# Altium schematic symbol library Mine.SchLib: 66 symbols
Pins are listed as number, name and electrical type; pins without a type are passive.

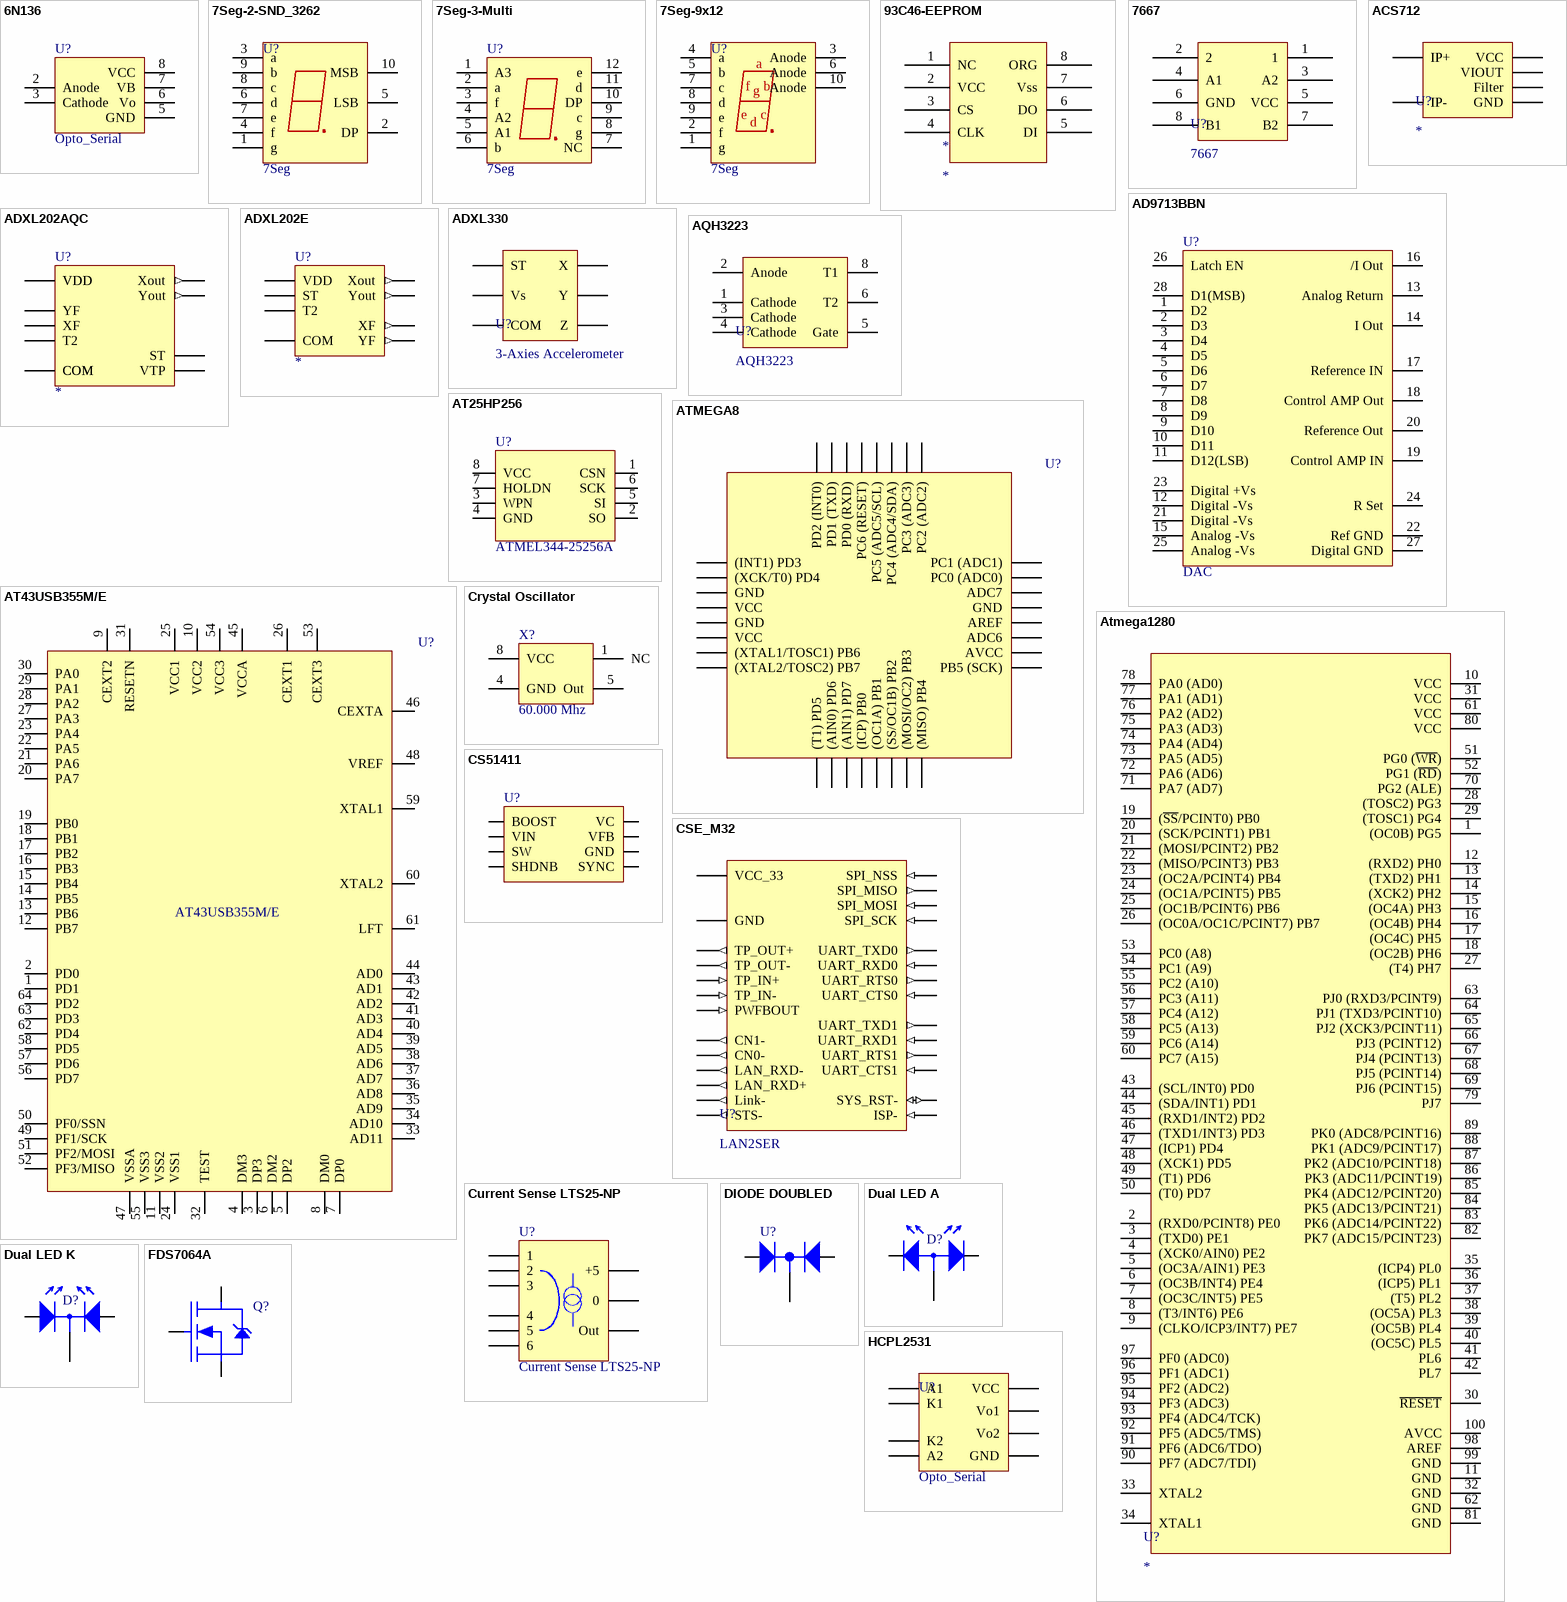
[diagram p0: symbols 6N136 to HCPL2531]

## 6N136
designator U?, comment Opto_Serial
footprint DIP-8 (Footprint not found)
pins: 2 Anode, 3 Cathode, 5 GND, 6 Vo, 7 VB, 8 VCC

## 7Seg-2-SND_3262
designator U?, comment 7Seg
footprint 7Seg-2-SND_3262 (Footprint not found)
pins: 1 g, 2 DP, 3 a, 4 f, 5 LSB, 6 d, 7 e, 8 c, 9 b, 10 MSB

## 7Seg-3-Multi
designator U?, comment 7Seg
footprint 7Seg-3-Multi
pins: 1 A3, 2 a, 3 f, 4 A2, 5 A1, 6 b, 7 NC, 8 g, 9 c, 10 DP, 11 d, 12 e

## 7Seg-9x12
designator U?, comment 7Seg
footprint 7Seg-9x12 (Footprint not found)
pins: 1 g, 2 f, 3 Anode, 4 a, 5 b, 6 Anode, 7 c, 8 d, 9 e, 10 Anode

## 93C46-EEPROM
designator *
footprint 93C46-EEPROM
pins: 1 NC, 2 VCC, 3 CS, 4 CLK, 5 DI, 6 DO, 7 Vss, 8 ORG

## 7667
designator U?
pins: 1, 2, 3 A2, 4 A1, 5 VCC, 6 GND, 7 B2, 8 B1

## ACS712
designator U?
footprint SO8_N (Footprint not found)
pins: 1 IP+ (power), 2 IP+ (power), 3 IP- (power), 4 IP- (power), 5 GND (power), 6 Filter, 7 VIOUT, 8 VCC

## AD9713BBN
designator U?, comment DAC
footprint DIP28W (DIP; 28 Leads; Row Spacing 15.24 mm; Pitch 2.54 mm)
pins: 1 D2, 2 D3, 3 D4, 4 D5, 5 D6, 6 D7, 7 D8, 8 D9, 9 D10, 10 D11, 11 D12(LSB), 12 Digital -Vs, 13 Analog Return, 14 I Out, 15 Analog -Vs, 16 /I Out, 17 Reference IN, 18 Control AMP Out, 19 Control AMP IN, 20 Reference Out, 21 Digital -Vs, 22 Ref GND, 23 Digital +Vs, 24 R Set, 25 Analog -Vs, 26 Latch EN, 27 Digital GND, 28 D1(MSB)

## ADXL202AQC
designator U?
Dual-Axis Accelerometer with Duty Cycle Output
footprint SOP14
pins: 2 VTP "Test Point, Do Not Connect", 3 ST "Self Test", 4 COM (power) "Common", 5 T2 "Connect RSET to Set T2 Period", 7 COM "Common", 9 Yout (out) "Y Axis Duty Cycle Output", 10 Xout (out) "X Axis Duty Cycle Output", 11 YF "Connect Capacitor for Y Filter", 12 XF "Connect Capacitor for X Filter", 13 VDD "+3 V to +5.25 V", 14 VDD "+3 V to +5.25 V"

## ADXL202E
designator U?
Dual-Axis Accelerometer with Duty Cycle Output
footprint LCC8
pins: 1 ST "Self-Test", 2 T2 "Connect RSET to Set T2 Period", 3 COM (power) "Common", 4 Yout (out) "Y-Channel Duty Cycle Output", 5 Xout (out) "X-Channel Duty Cycle Output", 6 YF (out) "Y-Channel Filter Pin", 7 XF (out) "X-Channel Filter Pin", 8 VDD (power) "3 V to 5.25 V"

## ADXL330
designator U?, comment 3-Axies Accelerometer
footprint CP-16-5
pins: 2 ST, 3 COM, 5 COM, 6 COM, 7 COM, 8 Z, 10 Y, 12 X, 14 Vs, 15 Vs

## AQH3223
designator U?
footprint DIP-8 (Footprint not found)
pins: 1 Cathode, 2 Anode, 3 Cathode, 4 Cathode, 5 Gate, 6 T2, 8 T1

## AT25HP256
designator U?, comment ATMEL344-25256A
pins: 1 CSN, 2 SO, 3 WPN, 4 GND, 5 SI, 6 SCK, 7 HOLDN, 8 VCC

## AT43USB355M/E
designator U?
footprint AT43USB355
pins: 1 PD1, 2 PD0, 3 DP3, 4 DM3, 5 DP2, 6 DM2, 7 DP0, 8 DM0, 9 CEXT2, 10 VCC2, 11 VSS2, 12 PB7, 13 PB6, 14 PB5, 15 PB4, 16 PB3, 17 PB2, 18 PB1, 19 PB0, 20 PA7, 21 PA6, 22 PA5, 23 PA4, 24 VSS1, 25 VCC1, 26 CEXT1, 27 PA3, 28 PA2, 29 PA1, 30 PA0, 31 RESETN, 32 TEST, 33 AD11, 34 AD10, 35 AD9, 36 AD8, 37 AD7, 38 AD6, 39 AD5, 40 AD4, 41 AD3, 42 AD2, 43 AD1, 44 AD0, 45 VCCA, 46 CEXTA, 47 VSSA, 48 VREF, 49 PF1/SCK, 50 PF0/SSN, 51 PF2/MOSI, 52 PF3/MISO, 53 CEXT3, 54 VCC3, 55 VSS3, 56 PD7, 57 PD6, 58 PD5, 59 XTAL1, 60 XTAL2, 61 LFT, 62 PD4, 63 PD3, 64 PD2

## ATMEGA8
designator U?
footprint Atmega8 (Model Description)
pins: 1 (INT1) PD3, 2 (XCK/T0) PD4, 3 GND, 4 VCC, 5 GND, 6 VCC, 7 (XTAL1/TOSC1) PB6, 8 (XTAL2/TOSC2) PB7, 9 (T1) PD5, 10 (AIN0) PD6, 11 (AIN1) PD7, 12 (ICP) PB0, 13 (OC1A) PB1, 14 (SS/OC1B) PB2, 15 (MOSI/OC2) PB3, 16 (MISO) PB4, 17 PB5 (SCK), 18 AVCC, 19 ADC6, 20 AREF, 21 GND, 22 ADC7, 23 PC0 (ADC0), 24 PC1 (ADC1), 25 PC2 (ADC2), 26 PC3 (ADC3), 27 PC4 (ADC4/SDA), 28 PC5 (ADC5/SCL), 29 PC6 (RESET), 30 PD0 (RXD), 31 PD1 (TXD), 32 PD2 (INT0)

## Atmega1280
designator U?
footprint TQFP100_L (Thin QFP, 100-Leads, Body 14x14mm, Pitch 0.5mm, IPC High Density)
pins: 1 (OC0B) PG5, 2 (RXD0/PCINT8) PE0, 3 (TXD0) PE1, 4 (XCK0/AIN0) PE2, 5 (OC3A/AIN1) PE3, 6 (OC3B/INT4) PE4, 7 (OC3C/INT5) PE5, 8 (T3/INT6) PE6, 9 (CLKO/ICP3/INT7) PE7, 10 VCC, 11 GND, 12 (RXD2) PH0, 13 (TXD2) PH1, 14 (XCK2) PH2, 15 (OC4A) PH3, 16 (OC4B) PH4, 17 (OC4C) PH5, 18 (OC2B) PH6, 19 (~{SS}/PCINT0) PB0, 20 (SCK/PCINT1) PB1, 21 (MOSI/PCINT2) PB2, 22 (MISO/PCINT3) PB3, 23 (OC2A/PCINT4) PB4, 24 (OC1A/PCINT5) PB5, 25 (OC1B/PCINT6) PB6, 26 (OC0A/OC1C/PCINT7) PB7, 27 (T4) PH7, 28 (TOSC2) PG3, 29 (TOSC1) PG4, 30 ~{RESET}, 31 VCC, 32 GND, 33 XTAL2, 34 XTAL1, 35 (ICP4) PL0, 36 (ICP5) PL1, 37 (T5) PL2, 38 (OC5A) PL3, 39 (OC5B) PL4, 40 (OC5C) PL5, 41 PL6, 42 PL7, 43 (SCL/INT0) PD0, 44 (SDA/INT1) PD1, 45 (RXD1/INT2) PD2, 46 (TXD1/INT3) PD3, 47 (ICP1) PD4, 48 (XCK1) PD5, 49 (T1) PD6, 50 (T0) PD7, 51 PG0 (~{WR}), 52 PG1 (~{RD}), 53 PC0 (A8), 54 PC1 (A9), 55 PC2 (A10), 56 PC3 (A11), 57 PC4 (A12), 58 PC5 (A13), 59 PC6 (A14), 60 PC7 (A15), 61 VCC, 62 GND, 63 PJ0 (RXD3/PCINT9), 64 PJ1 (TXD3/PCINT10), 65 PJ2 (XCK3/PCINT11), 66 PJ3 (PCINT12), 67 PJ4 (PCINT13), 68 PJ5 (PCINT14), 69 PJ6 (PCINT15), 70 PG2 (ALE), 71 PA7 (AD7), 72 PA6 (AD6), 73 PA5 (AD5), 74 PA4 (AD4), 75 PA3 (AD3), 76 PA2 (AD2), 77 PA1 (AD1), 78 PA0 (AD0), 79 PJ7, 80 VCC, 81 GND, 82 PK7 (ADC15/PCINT23), 83 PK6 (ADC14/PCINT22), 84 PK5 (ADC13/PCINT21), 85 PK4 (ADC12/PCINT20), 86 PK3 (ADC11/PCINT19), 87 PK2 (ADC10/PCINT18), 88 PK1 (ADC9/PCINT17), 89 PK0 (ADC8/PCINT16), 90 PF7 (ADC7/TDI), 91 PF6 (ADC6/TDO), 92 PF5 (ADC5/TMS), 93 PF4 (ADC4/TCK), 94 PF3 (ADC3), 95 PF2 (ADC2), 96 PF1 (ADC1), 97 PF0 (ADC0), 98 AREF, 99 GND, 100 AVCC

## Crystal Oscillator
designator X?, comment 60.000 Mhz
footprint Crystal Oscillator
pins: 1 NC, 4 GND, 5 Out, 8 VCC

## CS51411
designator U?
footprint SO-G8 (Model Description)
pins: 1 BOOST, 2 VIN, 3 SW, 4 SHDNB, 5 SYNC, 6 GND, 7 VFB, 8 VC

## CSE_M32
designator U?, comment LAN2SER
footprint CSE_M32
pins: 1_1 GND (power), 1_2 TP_IN- (in), 1_3 TP_IN+ (in), 1_4 PWFBOUT (in), 1_5 GND (power), 1_6 TP_OUT- (out), 1_7 TP_OUT+ (out), 1_8 LAN_RXD- (out), 1_9 LAN_RXD+ (out), 1_10 Link- (out), 1_11 STS- (out), 1_12 VCC_33 (power), 2_1 GND (power), 2_2 VCC_33 (power), 2_3 SPI_NSS (in), 2_4 SYS_RST- (io), 2_5 SPI_MISO (out), 2_6 CN0- (out), 2_7 SPI_MOSI (in), 2_8 CN1- (out), 2_9 SPI_SCK (in), 2_10 ISP- (in), 2_11 GND (power), 2_12 GND (power), 2_13 UART_TXD1 (out), 2_14 UART_TXD0 (out), 2_15 UART_RTS1 (out), 2_16 UART_RTS0 (out), 2_17 DTDX (out) hidden, 2_18 GND (power), 2_19 UART_RXD1 (in), 2_20 UART_RXD0 (in), 2_21 UART_CTS1 (in), 2_22 UART_CTS0 (in), 2_23 DRXD (in) hidden, 2_24 GND (power)

## Current Sense LTS25-NP
designator U?
footprint LTS25-NP (Current Sense)
pins: 1, 2, 3, 4, 5, 6, 7 +5, 8 0, 9 Out

## DIODE DOUBLED
designator U?
footprint DOUBLED DIODE (Model Description)
pins: 1 A, 2 A, 3 K

## Dual LED A
designator D?
pins: 1 K1, 2 K2, 3 A

## Dual LED K
designator D?
pins: 1 A1, 2 A2, 3 K

## FDS7064A
designator Q?
footprint FDS7064A (Model Description)
pins: 1 Gate, 2 Drain, 3 Source

## HCPL2531
designator U?, comment Opto_Serial
footprint DIP-8 (Footprint not found)
pins: 1 A1, 2 K1, 3 K2, 4 A2, 5 GND, 6 Vo2, 7 Vo1, 8 VCC

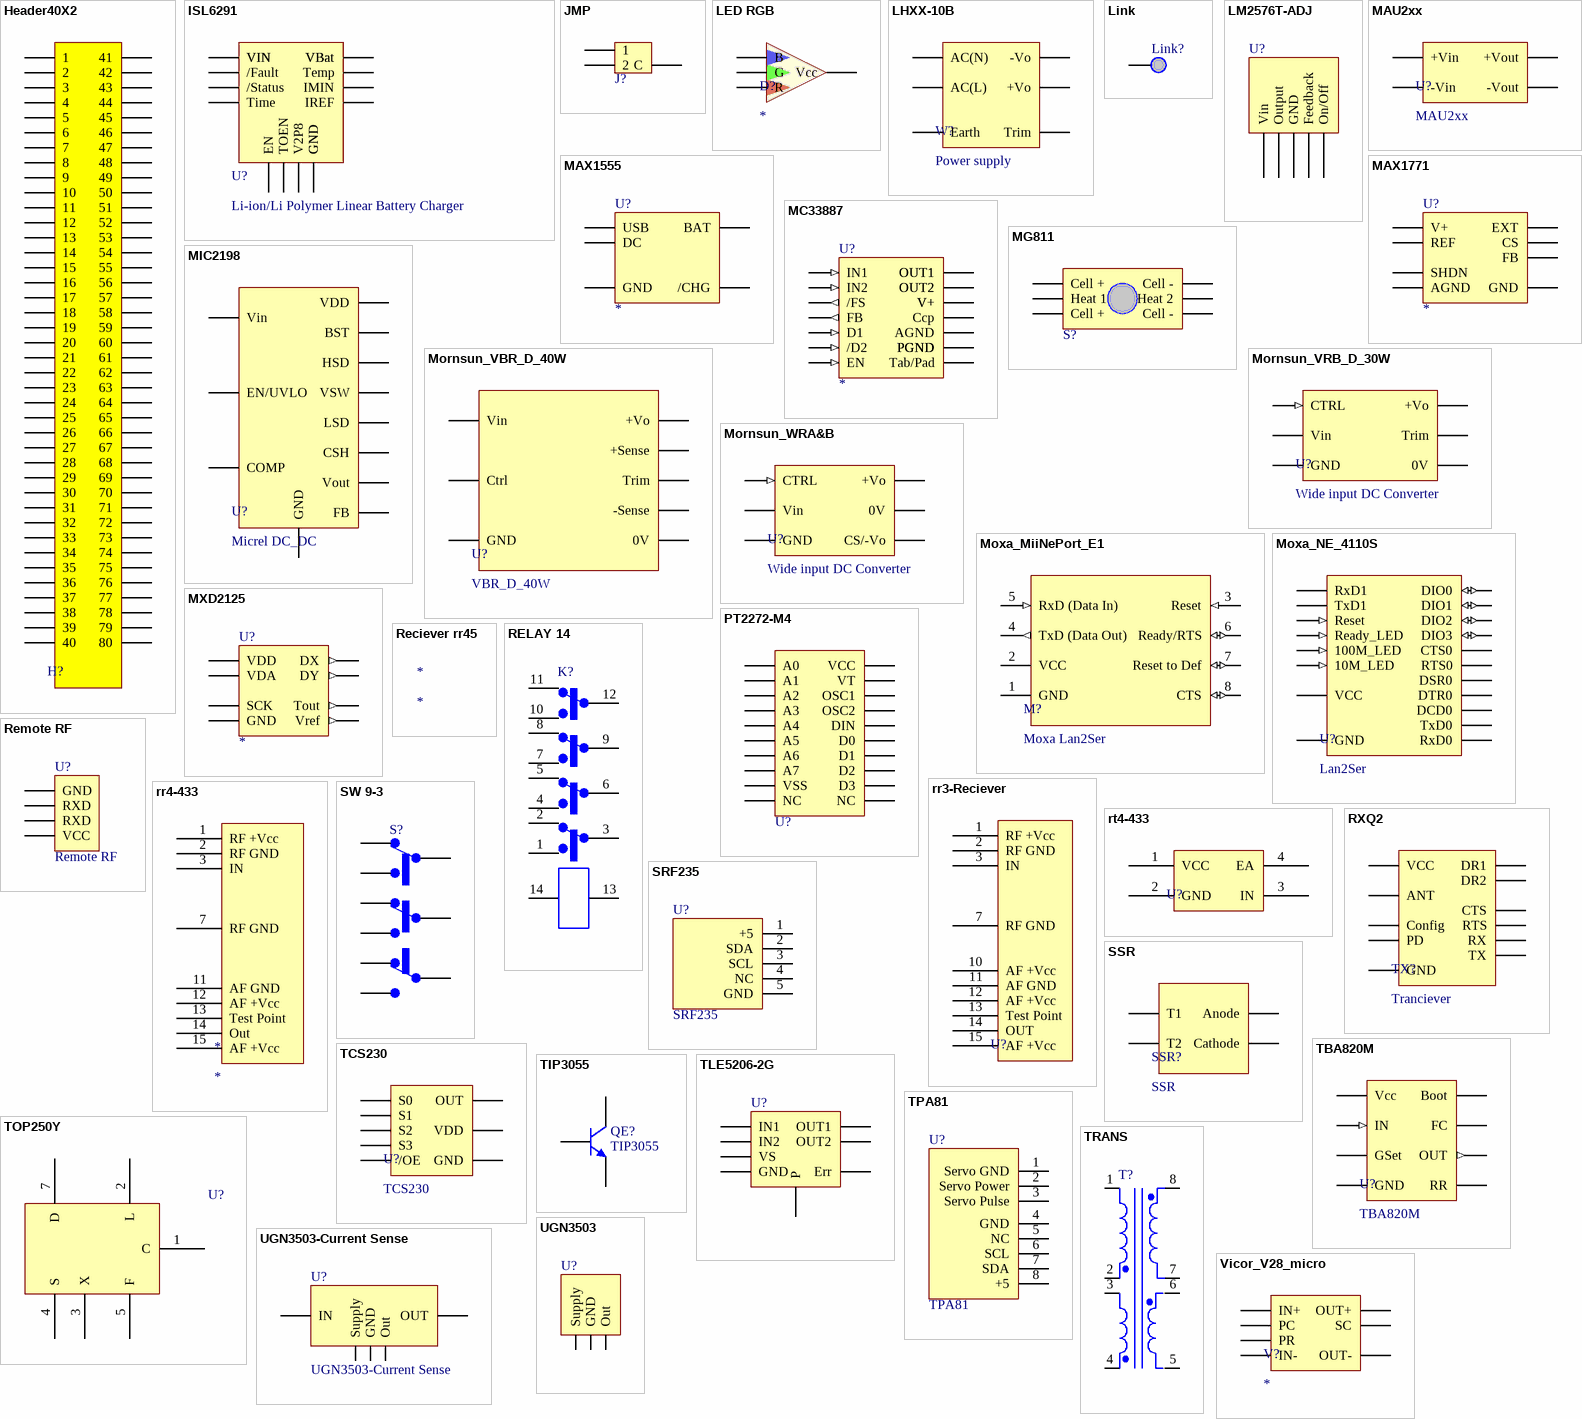
[diagram p1: symbols Header40X2 to Vicor_V28_micro]

## Header40X2
designator H?
footprint Header40X2
pins: 0 1, 2, 3, 4, 5, 6, 7, 8, 9, 10, 11, 12, 13, 14, 15, 16, 17, 18, 19, 20, 21, 22, 23, 24, 25, 26, 27, 28, 29, 30, 31, 32, 33, 34, 35, 36, 37, 38, 39, 40, 41, 42, 43, 44, 45, 46, 47, 48, 49, 50, 51, 52, 53, 54, 55, 56, 57, 58, 59, 60, 61, 62, 63, 64, 65, 66, 67, 68, 69, 70, 71, 72, 73, 74, 75, 76, 77, 78, 79, 80

## ISL6291
designator U?, comment Li-ion/Li Polymer Linear Battery Charger
footprint QFN-ML16_M (Footprint not found)
pins: 1 VIN, 2 /Fault (oc), 3 /Status (oc), 4 Time, 5 GND, 6 TOEN, 7 EN, 8 V2P8, 9 IREF, 10 IMIN, 11 Temp, 12 VBat, 13 VBat, 14 VBat, 15 VIN, 16 VIN, 17 GND

## JMP
designator J?, comment SMD jumper  (value not drawn)
footprint JMP
pins: 1, 2, 3 C

## LED RGB
designator D?
footprint RGB SMD
pins: 1 R (hiz), 2 G (hiz), 3 B (hiz), 4 Vcc (hiz)

## LHXX-10B
designator W?, comment Power supply
footprint LH10-10BXX (Footprint not found)
footprint LH05-10BXX (Footprint not found)
pins: 1 Earth, 2 AC(N), 3 AC(L), 4 -Vo, 8 +Vo, 9 Trim

## Link
designator Link?
footprint Link
pins: 1

## LM2576T-ADJ
designator U?
footprint LM2576T-ADJ (Model Description)
pins: 1 Vin, 2 Output, 3 GND, 4 Feedback, 5 On/Off

## MAU2xx
designator U?
Minimax isolated regulator
footprint MAU2xx (Minimax isolated regulator)
pins: 1 +Vin, 2 -Vin, 5 -Vout, 7 +Vout

## MAX1555
designator U?
Lion-poly charger
footprint SOT23 (Footprint not found)
pins: 1 USB "Gate Drive for External N-Channel Power Transistor", 2 GND "Power-Supply Input. Also acts as a voltage-sense point when in bootstrapped mode", 3 /CHG "Feedback Input for Adjustable-Output Operation", 4 DC "Active-High TTL/CMOS Logic-Level Shutdown Input", 5 BAT "1.5V Reference Output that can source 100µA for external loads. Bypass to GND with 0.1µF.  The reference is disabled in shutdown."

## MAX1771
designator U?
Step-Up DC-DC Controller up to 300KHz
footprint SO8 (Footprint not found)
pins: 1 EXT "Gate Drive for External N-Channel Power Transistor", 2 V+ "Power-Supply Input. Also acts as a voltage-sense point when in bootstrapped mode", 3 FB "Feedback Input for Adjustable-Output Operation", 4 SHDN "Active-High TTL/CMOS Logic-Level Shutdown Input", 5 REF "1.5V Reference Output that can source 100µA for external loads. Bypass to GND with 0.1µF.  The reference is disabled in shutdown.", 6 AGND "Analog Ground", 7 GND "High-Current Ground Return for the Output Driver", 8 CS "Positive Input to the Current-Sense Amplifier. Connect the current-sense resistor between CS  and GND."

## MC33887
designator U?
5A H-Bridge
footprint HSOP20
pins: 1 AGND (power) "Analog Ground", 2 /FS (out) "Fault Status for H-Bridge", 3 IN1 (in) "Logic Input Control 1", 4 V+ (power) "Power Supply", 5 V+ (power) "Power Supply", 6 OUT1 (power), 7 OUT1 (power), 8 FB (out) "Feedback for H-Bridge", 9 PGND (power) "Power Ground", 10 PGND (power) "Power Ground", 11 PGND (power) "Power Ground", 12 PGND (power) "Power Ground", 13 /D2 (in) "Disable 2", 14 OUT2 (power), 15 OUT2 (power), 16 V+ (power) "Power Supply", 17 Ccp "Charge Pump Capacitor", 18 D1 (in) "Disable 1", 19 IN2 (in) "Logic Input 2", 20 EN (in) "Enable", 21 Tab/Pad (power) "Connet to A & PGND"

## MG811
designator S?, comment CO2 Gas sensor  (value not drawn)
footprint MG811 (CO2 as sensor)
pins: 1 Cell +, 2 Heat 1, 3 Cell +, 4 Cell -, 5 Heat 2, 6 Cell -

## MIC2198
designator U?, comment Micrel DC_DC
footprint MLF12 (4x4 12-Lead MLF)
pins: 1 COMP, 2 EN/UVLO, 3 FB, 4 CSH, 5 Vout, 6 Vin, 7 VDD, 8 LSD, 9 GND, 10 BST, 11 VSW, 12 HSD

## Mornsun_VBR_D_40W
designator U?, comment VBR_D_40W
footprint Mornsun_VRB_D_40W
pins: 1 Vin, 2 GND, 3 Ctrl, 5 -Sense, 6 +Sense, 7 +Vo, 8 0V, 9 Trim

## Mornsun_VRB_D_30W
designator U?, comment Wide input DC Converter
footprint Mornsun_VRB_D_30W
pins: 1 Vin (power), 2 GND (power), 3 CTRL (in), 4 Trim (power), 5 NC (hiz) hidden, 5 0V (power), 6 +Vo (power)

## Mornsun_WRA&B
designator U?, comment Wide input DC Converter
footprint Mornsun_WRA&B
pins: 1 GND (power), 2 Vin (power), 3 CTRL (in), 5 NC (hiz) hidden, 6 +Vo (power), 7 0V (power), 8 CS/-Vo (power)

## Moxa_MiiNePort_E1
designator M?, comment Moxa Lan2Ser
footprint Moxa_MiiNePort_E1
pins: 1 GND (power), 2 VCC (power), 3 Reset (in), 4 TxD (Data Out) (out), 5 RxD (Data In) (in), 6 Ready/RTS (io), 7 Reset to Def (io), 8 CTS (io)

## Moxa_NE_4110S
designator U?, comment Lan2Ser
footprint Moxa_NE_4110S
pins: 1_1 DCD0 (power), 1_2 RxD0 (power), 1_3 TxD0 (power), 1_4 DTR0 (power), 1_5 GND (power), 1_6 DSR0 (power), 1_7 RTS0 (power), 1_8 CTS0 (power), 2_1 RxD1 (power), 2_2 TxD1 (power), 2_3 Reset (in), 2_4 DIO3 (io), 2_5 Ready_LED (in), 2_6 DIO2 (io), 2_7 100M_LED (in), 2_8 DIO1 (io), 2_9 10M_LED (in), 2_10 DIO0 (io), 2_11 VCC (power), 2_12 GND (power), 2_13 VCC (power), 2_14 GND (power)

## MXD2125
designator U?
Dual-Axis Accelerometer with Duty Cycle Output
footprint LCC8
pins: 1 Tout (out) "Temp", 2 DY (out) "Y-Axis Acceleration Signal", 3 GND (power), 4 VDA (power) "Analog Supply Voltage", 5 DX (out) "X-Axis Acceleration Signal", 6 Vref (out) "2.5V Reference", 7 SCK "Connect to Ground", 8 VDD (power) "Digital Supply Voltage"

## PT2272-M4
designator U?, comment Serial Reciever Decoder  (value not drawn)
pins: 1 A0, 2 A1, 3 A2, 4 A3, 5 A4, 6 A5, 7 A6, 8 A7, 9 VSS, 10 NC, 11 NC, 12 D3, 13 D2, 14 D1, 15 D0, 16 DIN, 17 OSC2, 18 OSC1, 19 VT, 20 VCC

## Reciever rr45
designator *

## RELAY 14
designator K?
pins: 1, 2, 3, 4, 5, 6, 7, 8, 9, 10, 11, 12, 13, 14

## Remote RF
designator U?
footprint Remote RF
pins: 1 GND, 2 RXD, 3 RXD, 4 VCC

## rr3-Reciever
designator U?, comment Reciever  (value not drawn)
pins: 1 RF +Vcc, 2 RF GND, 3 IN, 7 RF GND, 10 AF +Vcc, 11 AF GND, 12 AF +Vcc, 13 Test Point, 14 OUT, 15 AF +Vcc

## rr4-433
designator *
footprint rr4-433 (Reciever)
pins: 1 RF +Vcc, 2 RF GND, 3 IN, 7 RF GND, 11 AF GND, 12 AF +Vcc, 13 Test Point, 14 Out, 15 AF +Vcc

## rt4-433
designator U?  (value not drawn)
footprint rt4-433 (transmitter)
pins: 1 VCC, 2 GND, 3 IN, 4 EA

## RXQ2
designator TX?, comment Tranciever
footprint RXQ2 (Tranciever)
pins: 1 VCC, 2 GND, 3 GND hidden to 2, 4 GND hidden to 2, 5 ANT, 6 GND hidden to 2, 9 PD, 10 TX, 11 RX, 12 DR1, 13 DR2, 14 Config, 15 RTS, 16 CTS

## SRF235
designator U?
footprint SRF235
pins: 1 +5, 2 SDA, 3 SCL, 4 NC, 5 GND

## SSR
designator SSR?
SIP Type SSR for Medium  Power Control
pins: 1 T1 (power), 2 T2 (power), 3 Anode (power), 4 Cathode (power)

## SW 9-3
designator S?
footprint SW 9-3 (Model Description)
pins: 1, 2, 3, 4, 5, 6, 7, 8, 9

## TBA820M
designator U?
Audio Ampilfier
footprint DIP-8 (Footprint not found)
pins: 1 FC, 2 GSet, 3 IN (in), 4 GND (power), 5 OUT (out), 6 Vcc (power), 7 Boot (power), 8 RR

## TCS230
designator U?
COLOR LIGHT-TO-FREQUENCY CONVERTER
footprint SO8_N (Footprint not found)
pins: 1 S0, 2 S1, 3 /OE, 4 GND, 5 VDD, 6 OUT, 7 S2, 8 S3

## TIP3055
designator QE?
NPN Bipolar Transistor; Manufacturer: Generic Components; Class: Discrete; SubClass: BJT - Low Power; Published: 08/06/2000; Publisher: Altium Hobart Technology Centre
footprint TIP3055
simulation model NPN
signal-integrity model NPN
pins: 1 B, 2 C, 3 E

## TLE5206-2G
designator U?
footprint TLE5206G (Model Description)
pins: 1 OUT1, 2 Err, 3 IN1, 4 GND, 5 IN2, 6 VS, 7 OUT2, 8 P

## TOP250Y
designator U?
Power Switching Regulator 290W
footprint TOP250Y (Model Description)
pins: 1 C "Control", 2 L "Line-Sense", 3 X "External Current Limit", 4 S "Source", 5 F "Frequency", 7 D "Drain"

## TPA81
designator U?
footprint TPA81
pins: 1 Servo GND, 2 Servo Power, 3 Servo Pulse, 4 GND, 5 NC, 6 SCL, 7 SDA, 8 +5

## TRANS
designator T?
footprint TRANS ETD29 (Model Description); pin to pad 8>0
footprint TRANS ETD34 (Model Description); pin to pad 8>0
footprint TRANS ETD39 (Model Description); pin to pad 8>0
footprint Trans EER2834 (Model Description); pin to pad 8>0
footprint TRANS ETD44 (Model Description); pin to pad 8>0
footprint TRANS PQ2625 (Model Description); pin to pad 8>4
pins: 1, 2, 3, 4, 5, 6, 7, 8

## UGN3503
designator U?
Hall-Effect Linear Sensor
footprint UGN3503-U (Model Description)
pins: 1 Supply, 2 GND, 3 Out

## UGN3503-Current Sense
designator U?
Hall-Effect Linear Sensor
footprint UGN3503-Current Sense
pins: 1 Supply, 2 GND, 3 Out, 4 IN, 5 OUT

## Vicor_V28_micro
designator V?
pins: 1 IN+, 2 PC, 3 PR, 4 IN-, 5 OUT-, 6 SC, 7 OUT+

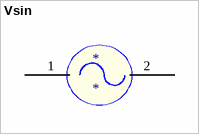
[diagram p2: symbol Vsin]

## Vsin
designator *
pins: 1 0, 2 1